# Altium schematic symbol library SpriteAntenna.SCHLIB: 1 symbol
Pins are listed as number, name and electrical type; pins without a type are passive.

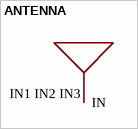
[diagram p0: symbol ANTENNA]

## ANTENNA
designator ?
footprint ANTENNA
pins: IN1 IN2 IN3 IN